# Altium schematic symbol library All.SchLib: 9 symbols
Pins are listed as number, name and electrical type; pins without a type are passive.

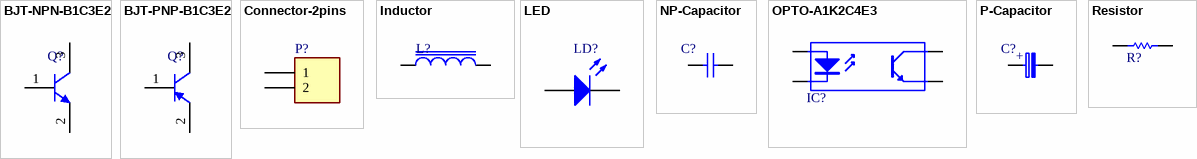
[diagram p0: symbols BJT-NPN-B1C3E2 to Resistor]

## BJT-NPN-B1C3E2
designator Q?
BJT NPN transistor B=1, C=3, E=2
pins: 1 B, 2 E, 3 C

## BJT-PNP-B1C3E2
designator Q?
BJT PNP transistor B=1, C=3, E=2
pins: 1 B, 2 E, 3 C

## Connector-2pins
designator P?
Connector 2 pins
pins: 1, 2

## Inductor
designator L?
Ferrite core inductor
pins: 1, 2

## LED
designator LD?
Single color LED
pins: 1 A, 2 K

## NP-Capacitor
designator C?
Non polarized capacitor
pins: 1, 2

## OPTO-A1K2C4E3
designator IC?
Optocoupler transistor output 4 pins
pins: 1 A "Anode", 2 K "Cathode", 3 E "Emitter", 4 C "Collector"

## P-Capacitor
designator C?
Polarized capacitor
pins: 1, 2
text: +

## Resistor
designator R?
Resistor
pins: 1, 2